# Altium schematic symbol library Connector.SchLib: 2 symbols
Pins are listed as number, name and electrical type; pins without a type are passive.

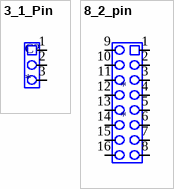
[diagram p0: symbols 3_1_Pin to 8_2_pin]

## 3_1_Pin
designator C?
pins: 1, 2, 3

## 8_2_pin
designator *
pins: 1, 2, 3, 4, 5, 6, 7, 8, 9, 10, 11, 12, 13, 14, 15, 16